# Altium footprint library PcbLibheader10.PcbLib: 2 footprints
Each footprint in its own frame and in the unit in brackets; x right, y up, seen from the top. Pads: shape width x height; smd on the part's side, far side on the other; paste and mask are expansions set on the pad; w line width, h text height; cw(c..) or ccw(c..) is an arc to the next point about the centre after c.
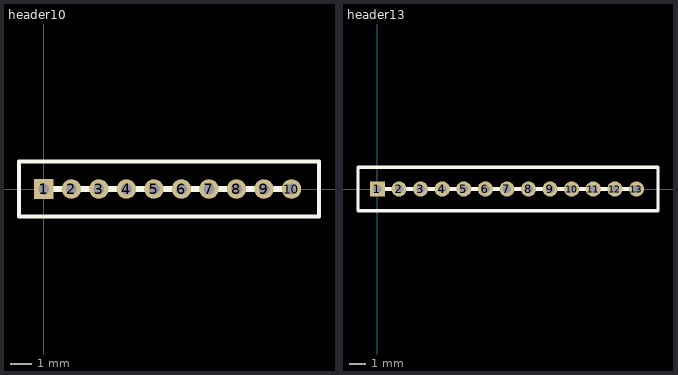
[diagram p0: the footprints below, top view; thin cyan lines are the x and y axes]

## header10 [mm] "header"
pads (10):
  rect 0.9x0.9 hole 0.5: 1(0,0)
  round 0.9 hole 0.5: 2(1.27,0) 3(2.54,0) 4(3.81,0) 5(5.08,0) 6(6.35,0) 7(7.62,0) 8(8.89,0) 9(10.16,0) 10(11.43,0)
Top Overlay:
  lines w0.2: -1.143,-1.27 -1.143,1.27 0.635,1.27 12.7,1.27 12.7,-1.27 -1.143,-1.27
  lines w0.254: 0,0 1.27,0 2.54,0 3.81,0 5.08,0 6.35,0 7.62,0 8.89,0 10.16,0 11.43,0

## header13 [mm]
pads (13):
  rect 0.9x0.9 hole 0.5: 1(0,0)
  round 0.9 hole 0.5: 2(1.27,0) 3(2.54,0) 4(3.81,0) 5(5.08,0) 6(6.35,0) 7(7.62,0) 8(8.89,0) 9(10.16,0) 10(11.43,0) 11(12.7,0) 12(13.97,0) 13(15.24,0)
Top Overlay:
  lines w0.2: -1.143,-1.27 -1.143,1.27 0.635,1.27 16.51,1.27 16.51,-1.27 -1.143,-1.27
  lines w0.254: 0,0 1.27,0 2.54,0 3.81,0 5.08,0 6.35,0 7.62,0 8.89,0 10.16,0 11.43,0 12.7,0 13.97,0 15.24,0